# Altium integrated library tripas.IntLib: 1 symbol
Pins are listed as number, name and electrical type; pins without a type are passive.

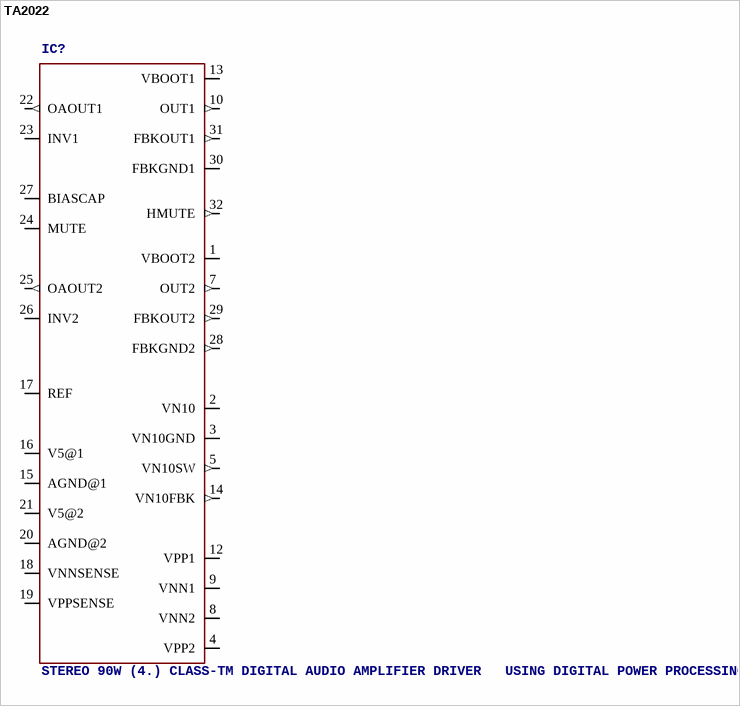
[diagram p0: symbol TA2022]

## TA2022
designator IC?, comment STEREO 90W (4.) CLASS-TM DIGITAL AUDIO AMPLIFIER DRIVER   USING DIGITAL POWER PROCESSING  (DPP TM) TECHNOLOGY Source: http://www.tripath.com/audio.htm .. TA2022.pdf
OC_FARNELL: unknown; OC_NEWARK: unknown
footprint SSIP-32
pins: 1 VBOOT2, 2 VN10, 3 VN10GND (power), 4 VPP2 (power), 5 VN10SW (out), 7 OUT2 (out), 8 VNN2 (power), 9 VNN1 (power), 10 OUT1 (out), 12 VPP1 (power), 13 VBOOT1, 14 VN10FBK (out), 15 AGND@1 (power), 16 V5@1 (power), 17 REF, 18 VNNSENSE, 19 VPPSENSE, 20 AGND@2 (power), 21 V5@2 (power), 22 OAOUT1 (out), 23 INV1, 24 MUTE, 25 OAOUT2 (out), 26 INV2, 27 BIASCAP, 28 FBKGND2 (out), 29 FBKOUT2 (out), 30 FBKGND1, 31 FBKOUT1 (out), 32 HMUTE (out)